# Altium integrated library ST Microcontroller 16-Bit.IntLib: 21 symbols (part 2 of 2)
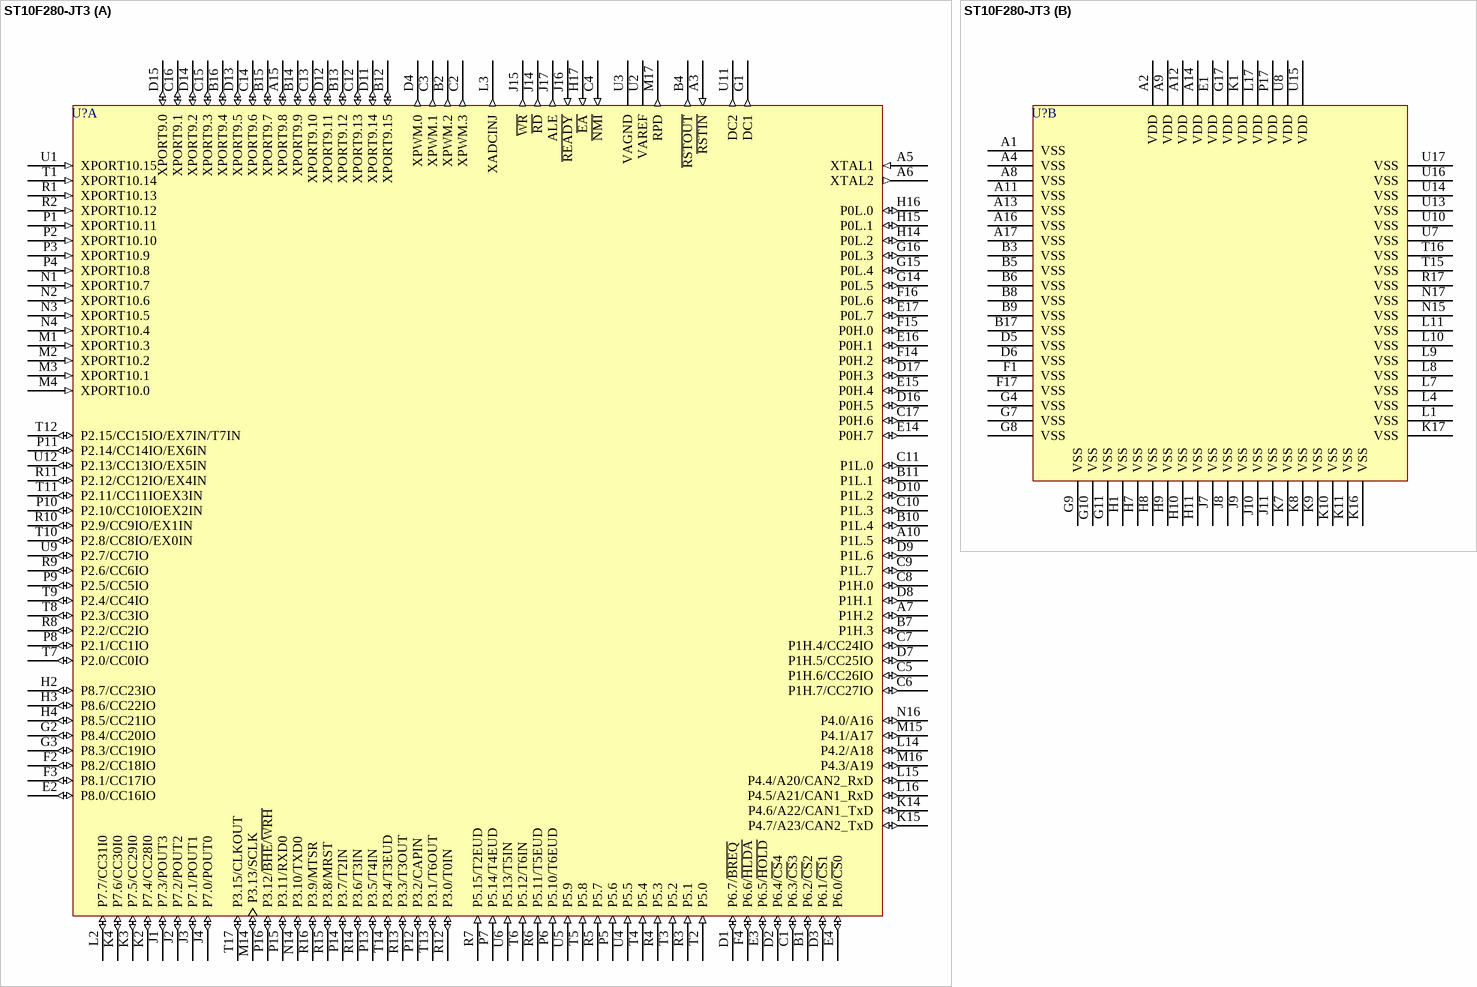
[diagram p18: symbol ST10F280-JT3]

## ST10F280-JT3
designator U?
16-Bit MCU with MAC Unit, 512k FLASH Memory and 18k RAM, 208-Pin BGA; Published: 26-May-2004; LatestRevisionDate: 6-Jun-2005; LatestRevisionNote: Stylized 3D Model Added.; DatasheetDocument: Mar-2003; PackageDocument: Mar-2003; PackageReference: PBGA208; Publisher: Altium Limited; ComponentLink1Description: Manufacturer Link; ComponentLink1URL: http://www.st.com/; ComponentLink2Description: Datasheet; ComponentLink2URL: http://www.st.com/stonline/products/literature/ds/8673/st10f280.pdf
footprint PBGA208 (BGA; 233 Balls; Body 23 x 23 mm; Pitch 1.27 mm)
3D model ST10F280-PBGA208 (BGA; 233 Balls; Body 23 x 23 mm; Pitch 1.27 mm)
part A pins: A3 ~{RSTIN} (in), A5 XTAL1 (in), A6 XTAL2 (out), A7 P1H.2 (io), A10 P1L.5 (io), A15 XPORT9.8 (io), B1 P6.2/~{CS}2 (io), B2 XPWM.2 (out), B4 ~{RSTOUT} (out), B7 P1H.3 (io), B10 P1L.4 (io), B11 P1L.1 (io), B12 XPORT9.15 (io), B13 XPORT9.12 (io), B14 XPORT9.9 (io), B15 XPORT9.7 (io), B16 XPORT9.4 (io), C1 P6.3/~{CS}3 (io), C2 XPWM.3 (out), C3 XPWM.1 (out), C4 ~{NMI} (in), C5 P1H.6/CC26IO (io), C6 P1H.7/CC27IO (io), C7 P1H.4/CC24IO (io), C8 P1H.0 (io), C9 P1L.7 (io), C10 P1L.3 (io), C11 P1L.0 (io), C12 XPORT9.13 (io), C13 XPORT9.10 (io), C14 XPORT9.6 (io), C15 XPORT9.3 (io), C16 XPORT9.1 (io), C17 P0H.6 (io), D1 P6.7/~{BREQ} (io), D2 P6.4/~{CS}4 (io), D3 P6.1/~{CS}1 (io), D4 XPWM.0 (out), D7 P1H.5/CC25IO (io), D8 P1H.1 (io), D9 P1L.6 (io), D10 P1L.2 (io), D11 XPORT9.14 (io), D12 XPORT9.11 (io), D13 XPORT9.5 (io), D14 XPORT9.2 (io), D15 XPORT9.0 (io), D16 P0H.5 (io), D17 P0H.3 (io), E2 P8.0/CC16IO (io), E3 P6.5/~{HOLD} (io), E4 P6.0/~{CS}0 (io), E14 P0H.7 (io), E15 P0H.4 (io), E16 P0H.1 (io), E17 P0L.7 (io), F2 P8.2/CC18IO (io), F3 P8.1/CC17IO (io), F4 P6.6/~{HLDA} (io), F14 P0H.2 (io), F15 P0H.0 (io), F16 P0L.6 (io), G1 DC1 (out), G2 P8.4/CC20IO (io), G3 P8.3/CC19IO (io), G14 P0L.5 (io), G15 P0L.4 (io), G16 P0L.3 (io), H2 P8.7/CC23IO (io), H3 P8.6/CC22IO (io), H4 P8.5/CC21IO (io), H14 P0L.2 (io), H15 P0L.1 (io), H16 P0L.0 (io), H17 ~{EA} (in), J1 P7.3/POUT3 (io), J2 P7.2/POUT2 (io), J3 P7.1/POUT1 (io), J4 P7.0/POUT0 (io), J14 ~{RD} (out), J15 ~{WR} (out), J16 ~{READY} (in), J17 ALE (out), K2 P7.4/CC28I0 (io), K3 P7.5/CC29I0 (io), K4 P7.6/CC30I0 (io), K14 P4.6/A22/CAN1_TxD (io), K15 P4.7/A23/CAN2_TxD (io), L2 P7.7/CC31I0 (io), L3 XADCINJ (out), L14 P4.2/A18 (io), L15 P4.4/A20/CAN2_RxD (io), L16 P4.5/A21/CAN1_RxD (io), M1 XPORT10.3 (in), M2 XPORT10.2 (in), M3 XPORT10.1 (in), M4 XPORT10.0 (in), M14 P3.13/SCLK (io), M15 P4.1/A17 (io), M16 P4.3/A19 (io), M17 RPD (out), N1 XPORT10.7 (in), N2 XPORT10.6 (in), N3 XPORT10.5 (in), N4 XPORT10.4 (in), N14 P3.10/TXD0 (io), N16 P4.0/A16 (io), P1 XPORT10.11 (in), P2 XPORT10.10 (in), P3 XPORT10.9 (in), P4 XPORT10.8 (in), P5 P5.6 (in), P6 P5.10/T6EUD (in), P7 P5.14/T4EUD (in), P8 P2.1/CC1IO (io), P9 P2.5/CC5IO (io), P10 P2.10/CC10IOEX2IN (io), P11 P2.14/CC14IO/EX6IN (io), P12 P3.2/CAPIN (io), P13 P3.5/T4IN (io), P14 P3.7/T2IN (io), P15 P3.11/RXD0 (io), P16 P3.12/~{BHE}/~{WRH} (io), R1 XPORT10.13 (in), R2 XPORT10.12 (in), R3 P5.1 (in), R4 P5.3 (in), R5 P5.7 (in), R6 P5.11/T5EUD (in), R7 P5.15/T2EUD (in), R8 P2.2/CC2IO (io), R9 P2.6/CC6IO (io), R10 P2.9/CC9IO/EX1IN (io), R11 P2.12/CC12IO/EX4IN (io), R12 P3.0/T0IN (io), R13 P3.3/T3OUT (io), R14 P3.6/T3IN (io), R15 P3.8/MRST (io), R16 P3.9/MTSR (io), T1 XPORT10.14 (in), T2 P5.0 (in), T3 P5.2 (in), T4 P5.4 (in), T5 P5.8 (in), T6 P5.12/T6IN (in), T7 P2.0/CC0IO (io), T8 P2.3/CC3IO (io), T9 P2.4/CC4IO (io), T10 P2.8/CC8IO/EX0IN (io), T11 P2.11/CC11IOEX3IN (io), T12 P2.15/CC15IO/EX7IN/T7IN (io), T13 P3.1/T6OUT (io), T14 P3.4/T3EUD (io), T17 P3.15/CLKOUT (io), U1 XPORT10.15 (in), U2 VAREF (power), U3 VAGND (power), U4 P5.5 (in), U5 P5.9 (in), U6 P5.13/T5IN (in), U9 P2.7/CC7IO (io), U11 DC2 (out), U12 P2.13/CC13IO/EX5IN (io)
part B pins: A1 VSS (power), A2 VDD (power), A4 VSS (power), A8 VSS (power), A9 VDD (power), A11 VSS (power), A12 VDD (power), A13 VSS (power), A14 VDD (power), A16 VSS (power), A17 VSS (power), B3 VSS (power), B5 VSS (power), B6 VSS (power), B8 VSS (power), B9 VSS (power), B17 VSS (power), D5 VSS (power), D6 VSS (power), E1 VDD (power), F1 VSS (power), F17 VSS (power), G4 VSS (power), G7 VSS (power), G8 VSS (power), G9 VSS (power), G10 VSS (power), G11 VSS (power), G17 VDD (power), H1 VSS (power), H7 VSS (power), H8 VSS (power), H9 VSS (power), H10 VSS (power), H11 VSS (power), J7 VSS (power), J8 VSS (power), J9 VSS (power), J10 VSS (power), J11 VSS (power), K1 VDD (power), K7 VSS (power), K8 VSS (power), K9 VSS (power), K10 VSS (power), K11 VSS (power), K16 VSS (power), K17 VSS (power), L1 VSS (power), L4 VSS (power), L7 VSS (power), L8 VSS (power), L9 VSS (power), L10 VSS (power), L11 VSS (power), L17 VDD (power), N15 VSS (power), N17 VSS (power), P17 VDD (power), R17 VSS (power), T15 VSS (power), T16 VSS (power), U7 VSS (power), U8 VDD (power), U10 VSS (power), U13 VSS (power), U14 VSS (power), U15 VDD (power), U16 VSS (power), U17 VSS (power)

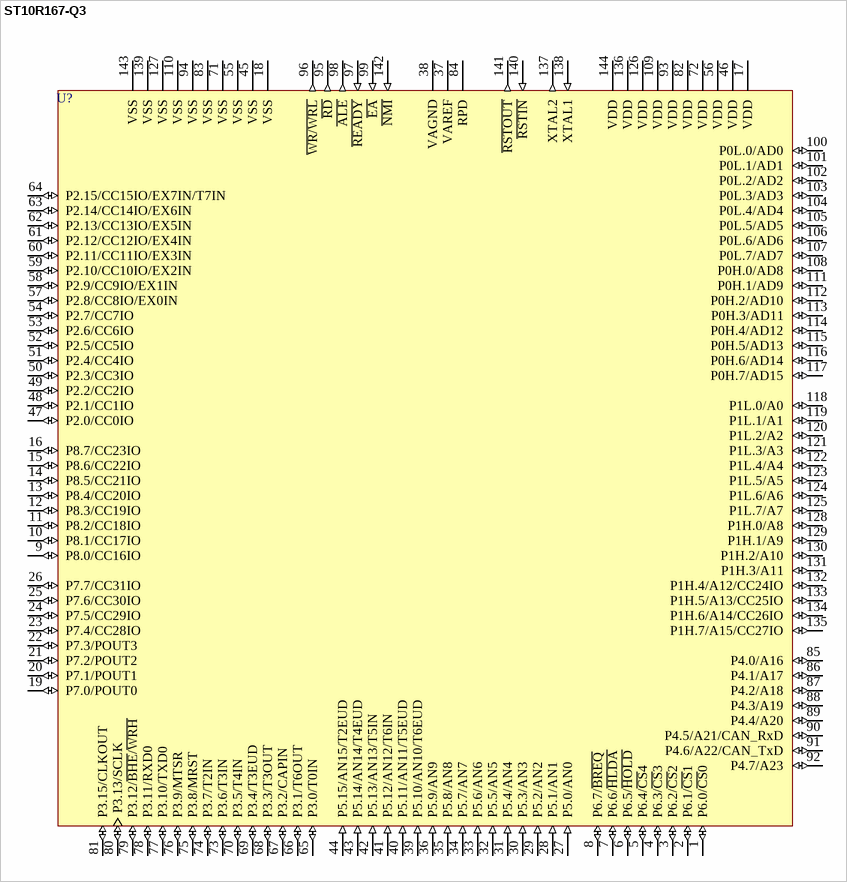
[diagram p15: symbol ST10R167-Q3]

## ST10R167-Q3
designator U?
16-Bit ROMless MCU, 144-Pin PQFP; Published: 26-May-2004; LatestRevisionDate: 6-Jun-2005; LatestRevisionNote: Stylized 3D Model Added.; DatasheetDocument: Aug-1999; PackageDocument: Jun-2002; PackageReference: PQFP144; Publisher: Altium Limited; Code_IPC: QFP28X28-144; ComponentLink1Description: Manufacturer Link; ComponentLink1URL: http://www.st.com/; ComponentLink2Description: Datasheet; ComponentLink2URL: http://www.st.com/stonline/products/literature/ds/6864/st10r167.pdf
footprint PQFP144 (QFP; 144 Leads; Body 28 x 28 mm; Pitch 0.65 mm)
3D model ST10R167-PQFP144 (QFP; 144 Leads; Body 28 x 28 mm; Pitch 0.65 mm)
pins: 1 P6.0/~{CS}0 (io), 2 P6.1/~{CS}1 (io), 3 P6.2/~{CS}2 (io), 4 P6.3/~{CS}3 (io), 5 P6.4/~{CS}4 (io), 6 P6.5/~{HOLD} (io), 7 P6.6/~{HLDA} (io), 8 P6.7/~{BREQ} (io), 9 P8.0/CC16IO (io), 10 P8.1/CC17IO (io), 11 P8.2/CC18IO (io), 12 P8.3/CC19IO (io), 13 P8.4/CC20IO (io), 14 P8.5/CC21IO (io), 15 P8.6/CC22IO (io), 16 P8.7/CC23IO (io), 17 VDD (power), 18 VSS (power), 19 P7.0/POUT0 (io), 20 P7.1/POUT1 (io), 21 P7.2/POUT2 (io), 22 P7.3/POUT3 (io), 23 P7.4/CC28IO (io), 24 P7.5/CC29IO (io), 25 P7.6/CC30IO (io), 26 P7.7/CC31IO (io), 27 P5.0/AN0 (in), 28 P5.1/AN1 (in), 29 P5.2/AN2 (in), 30 P5.3/AN3 (in), 31 P5.4/AN4 (in), 32 P5.5/AN5 (in), 33 P5.6/AN6 (in), 34 P5.7/AN7 (in), 35 P5.8/AN8 (in), 36 P5.9/AN9 (in), 37 VAREF (power), 38 VAGND (power), 39 P5.10/AN10/T6EUD (in), 40 P5.11/AN11/T5EUD (in), 41 P5.12/AN12/T6IN (in), 42 P5.13/AN13/T5IN (in), 43 P5.14/AN14/T4EUD (in), 44 P5.15/AN15/T2EUD (in), 45 VSS (power), 46 VDD (power), 47 P2.0/CC0IO (io), 48 P2.1/CC1IO (io), 49 P2.2/CC2IO (io), 50 P2.3/CC3IO (io), 51 P2.4/CC4IO (io), 52 P2.5/CC5IO (io), 53 P2.6/CC6IO (io), 54 P2.7/CC7IO (io), 55 VSS (power), 56 VDD (power), 57 P2.8/CC8IO/EX0IN (io), 58 P2.9/CC9IO/EX1IN (io), 59 P2.10/CC10IO/EX2IN (io), 60 P2.11/CC11IO/EX3IN (io), 61 P2.12/CC12IO/EX4IN (io), 62 P2.13/CC13IO/EX5IN (io), 63 P2.14/CC14IO/EX6IN (io), 64 P2.15/CC15IO/EX7IN/T7IN (io), 65 P3.0/T0IN (io), 66 P3.1/T6OUT (io), 67 P3.2/CAPIN (io), 68 P3.3/T3OUT (io), 69 P3.4/T3EUD (io), 70 P3.5/T4IN (io), 71 VSS (power), 72 VDD (power), 73 P3.6/T3IN (io), 74 P3.7/T2IN (io), 75 P3.8/MRST (io), 76 P3.9/MTSR (io), 77 P3.10/TXD0 (io), 78 P3.11/RXD0 (io), 79 P3.12/~{BHE}/~{WRH} (io), 80 P3.13/SCLK (io), 81 P3.15/CLKOUT (io), 82 VDD (power), 83 VSS (power), 84 RPD (power), 85 P4.0/A16 (io), 86 P4.1/A17 (io), 87 P4.2/A18 (io), 88 P4.3/A19 (io), 89 P4.4/A20 (io), 90 P4.5/A21/CAN_RxD (io), 91 P4.6/A22/CAN_TxD (io), 92 P4.7/A23 (io), 93 VDD (power), 94 VSS (power), 95 ~{RD} (out), 96 ~{WR/WRL} (out), 97 ~{READY} (in), 98 ~{ALE} (out), 99 ~{EA} (in), 100 P0L.0/AD0 (io), 101 P0L.1/AD1 (io), 102 P0L.2/AD2 (io), 103 P0L.3/AD3 (io), 104 P0L.4/AD4 (io), 105 P0L.5/AD5 (io), 106 P0L.6/AD6 (io), 107 P0L.7/AD7 (io), 108 P0H.0/AD8 (io), 109 VDD (power), 110 VSS (power), 111 P0H.1/AD9 (io), 112 P0H.2/AD10 (io), 113 P0H.3/AD11 (io), 114 P0H.4/AD12 (io), 115 P0H.5/AD13 (io), 116 P0H.6/AD14 (io), 117 P0H.7/AD15 (io), 118 P1L.0/A0 (io), 119 P1L.1/A1 (io), 120 P1L.2/A2 (io), 121 P1L.3/A3 (io), 122 P1L.4/A4 (io), 123 P1L.5/A5 (io), 124 P1L.6/A6 (io), 125 P1L.7/A7 (io), 126 VDD (power), 127 VSS (power), 128 P1H.0/A8 (io), 129 P1H.1/A9 (io), 130 P1H.2/A10 (io), 131 P1H.3/A11 (io), 132 P1H.4/A12/CC24IO (io), 133 P1H.5/A13/CC25IO (io), 134 P1H.6/A14/CC26IO (io), 135 P1H.7/A15/CC27IO (io), 136 VDD (power), 137 XTAL2 (out), 138 XTAL1 (in), 139 VSS (power), 140 ~{RSTIN} (in), 141 ~{RSTOUT} (out), 142 ~{NMI} (in), 143 VSS (power), 144 VDD (power)

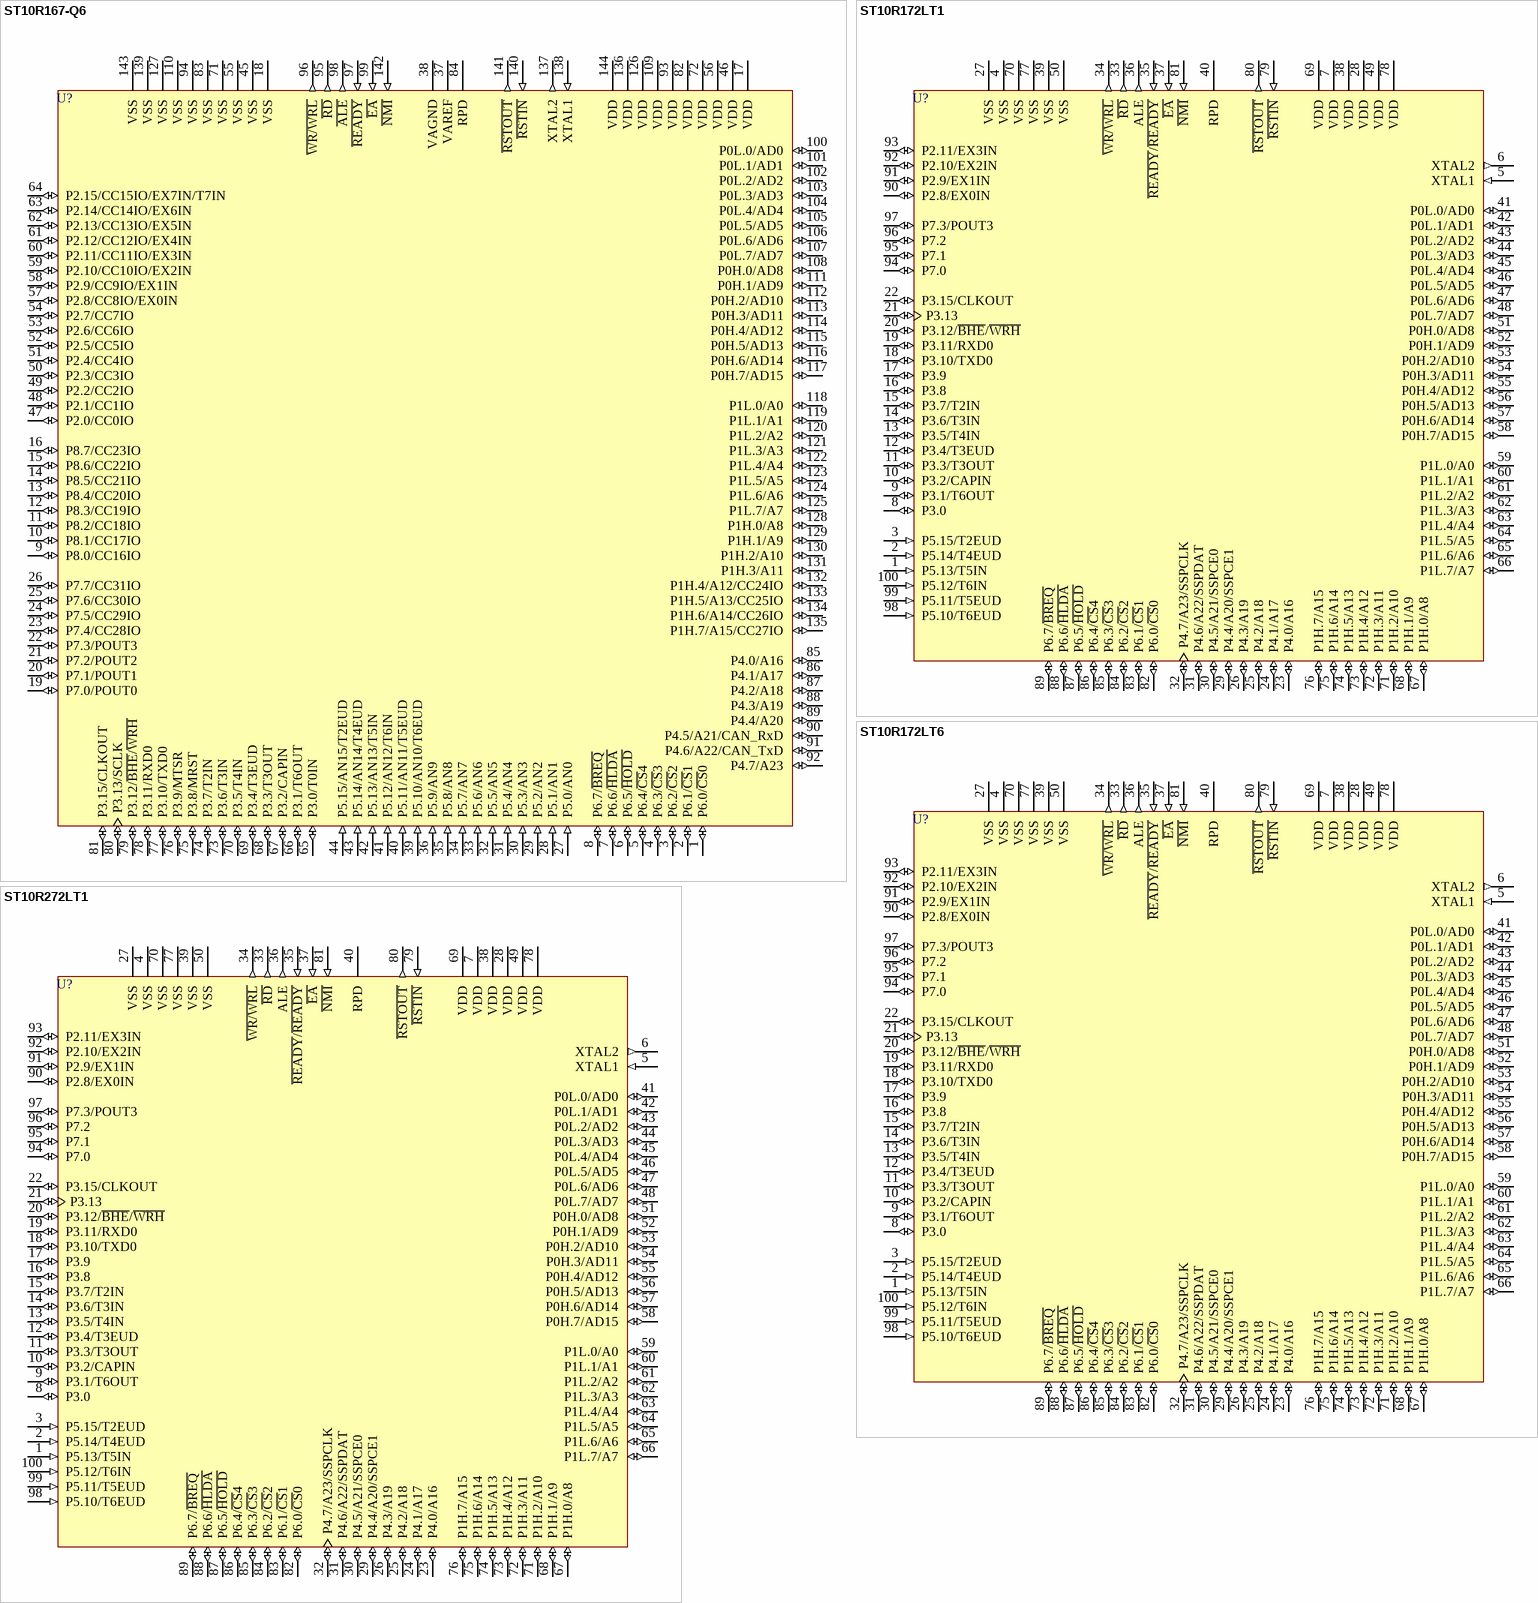
[diagram p16: symbols ST10R167-Q6 to ST10R272LT1]

## ST10R167-Q6
designator U?
16-Bit ROMless MCU, 144-Pin PQFP; Published: 26-May-2004; LatestRevisionDate: 6-Jun-2005; LatestRevisionNote: Stylized 3D Model Added.; DatasheetDocument: Aug-1999; PackageDocument: Jun-2002; PackageReference: PQFP144; Publisher: Altium Limited; Code_IPC: QFP28X28-144; ComponentLink1Description: Manufacturer Link; ComponentLink1URL: http://www.st.com/; ComponentLink2Description: Datasheet; ComponentLink2URL: http://www.st.com/stonline/products/literature/ds/6864/st10r167.pdf
footprint PQFP144 (QFP; 144 Leads; Body 28 x 28 mm; Pitch 0.65 mm)
3D model ST10R167-PQFP144 (QFP; 144 Leads; Body 28 x 28 mm; Pitch 0.65 mm)
pins: 1 P6.0/~{CS}0 (io), 2 P6.1/~{CS}1 (io), 3 P6.2/~{CS}2 (io), 4 P6.3/~{CS}3 (io), 5 P6.4/~{CS}4 (io), 6 P6.5/~{HOLD} (io), 7 P6.6/~{HLDA} (io), 8 P6.7/~{BREQ} (io), 9 P8.0/CC16IO (io), 10 P8.1/CC17IO (io), 11 P8.2/CC18IO (io), 12 P8.3/CC19IO (io), 13 P8.4/CC20IO (io), 14 P8.5/CC21IO (io), 15 P8.6/CC22IO (io), 16 P8.7/CC23IO (io), 17 VDD (power), 18 VSS (power), 19 P7.0/POUT0 (io), 20 P7.1/POUT1 (io), 21 P7.2/POUT2 (io), 22 P7.3/POUT3 (io), 23 P7.4/CC28IO (io), 24 P7.5/CC29IO (io), 25 P7.6/CC30IO (io), 26 P7.7/CC31IO (io), 27 P5.0/AN0 (in), 28 P5.1/AN1 (in), 29 P5.2/AN2 (in), 30 P5.3/AN3 (in), 31 P5.4/AN4 (in), 32 P5.5/AN5 (in), 33 P5.6/AN6 (in), 34 P5.7/AN7 (in), 35 P5.8/AN8 (in), 36 P5.9/AN9 (in), 37 VAREF (power), 38 VAGND (power), 39 P5.10/AN10/T6EUD (in), 40 P5.11/AN11/T5EUD (in), 41 P5.12/AN12/T6IN (in), 42 P5.13/AN13/T5IN (in), 43 P5.14/AN14/T4EUD (in), 44 P5.15/AN15/T2EUD (in), 45 VSS (power), 46 VDD (power), 47 P2.0/CC0IO (io), 48 P2.1/CC1IO (io), 49 P2.2/CC2IO (io), 50 P2.3/CC3IO (io), 51 P2.4/CC4IO (io), 52 P2.5/CC5IO (io), 53 P2.6/CC6IO (io), 54 P2.7/CC7IO (io), 55 VSS (power), 56 VDD (power), 57 P2.8/CC8IO/EX0IN (io), 58 P2.9/CC9IO/EX1IN (io), 59 P2.10/CC10IO/EX2IN (io), 60 P2.11/CC11IO/EX3IN (io), 61 P2.12/CC12IO/EX4IN (io), 62 P2.13/CC13IO/EX5IN (io), 63 P2.14/CC14IO/EX6IN (io), 64 P2.15/CC15IO/EX7IN/T7IN (io), 65 P3.0/T0IN (io), 66 P3.1/T6OUT (io), 67 P3.2/CAPIN (io), 68 P3.3/T3OUT (io), 69 P3.4/T3EUD (io), 70 P3.5/T4IN (io), 71 VSS (power), 72 VDD (power), 73 P3.6/T3IN (io), 74 P3.7/T2IN (io), 75 P3.8/MRST (io), 76 P3.9/MTSR (io), 77 P3.10/TXD0 (io), 78 P3.11/RXD0 (io), 79 P3.12/~{BHE}/~{WRH} (io), 80 P3.13/SCLK (io), 81 P3.15/CLKOUT (io), 82 VDD (power), 83 VSS (power), 84 RPD (power), 85 P4.0/A16 (io), 86 P4.1/A17 (io), 87 P4.2/A18 (io), 88 P4.3/A19 (io), 89 P4.4/A20 (io), 90 P4.5/A21/CAN_RxD (io), 91 P4.6/A22/CAN_TxD (io), 92 P4.7/A23 (io), 93 VDD (power), 94 VSS (power), 95 ~{RD} (out), 96 ~{WR/WRL} (out), 97 ~{READY} (in), 98 ~{ALE} (out), 99 ~{EA} (in), 100 P0L.0/AD0 (io), 101 P0L.1/AD1 (io), 102 P0L.2/AD2 (io), 103 P0L.3/AD3 (io), 104 P0L.4/AD4 (io), 105 P0L.5/AD5 (io), 106 P0L.6/AD6 (io), 107 P0L.7/AD7 (io), 108 P0H.0/AD8 (io), 109 VDD (power), 110 VSS (power), 111 P0H.1/AD9 (io), 112 P0H.2/AD10 (io), 113 P0H.3/AD11 (io), 114 P0H.4/AD12 (io), 115 P0H.5/AD13 (io), 116 P0H.6/AD14 (io), 117 P0H.7/AD15 (io), 118 P1L.0/A0 (io), 119 P1L.1/A1 (io), 120 P1L.2/A2 (io), 121 P1L.3/A3 (io), 122 P1L.4/A4 (io), 123 P1L.5/A5 (io), 124 P1L.6/A6 (io), 125 P1L.7/A7 (io), 126 VDD (power), 127 VSS (power), 128 P1H.0/A8 (io), 129 P1H.1/A9 (io), 130 P1H.2/A10 (io), 131 P1H.3/A11 (io), 132 P1H.4/A12/CC24IO (io), 133 P1H.5/A13/CC25IO (io), 134 P1H.6/A14/CC26IO (io), 135 P1H.7/A15/CC27IO (io), 136 VDD (power), 137 XTAL2 (out), 138 XTAL1 (in), 139 VSS (power), 140 ~{RSTIN} (in), 141 ~{RSTOUT} (out), 142 ~{NMI} (in), 143 VSS (power), 144 VDD (power)

## ST10R172LT1
designator U?
16-Bit Low Voltage ROMless MCU, 100-Pin TQFP; Published: 26-May-2004; LatestRevisionDate: 6-Jun-2005; LatestRevisionNote: Stylized 3D Model Added.; DatasheetDocument: rev1.2, Mar-2001; PackageDocument: Dec-2002; PackageReference: TQFP100; Publisher: Altium Limited; Code_IPC: SQFP14X14-100; ComponentLink1Description: Manufacturer Link; ComponentLink1URL: http://www.st.com/; ComponentLink2Description: Datasheet; ComponentLink2URL: http://www.st.com/stonline/products/literature/ds/6994/st10r172.pdf
footprint TQFP100 (QFP, Thin; 100 Leads; Body 14 x 14 mm; Pitch 0.5 mm)
3D model ST10R172L-TQFP100 (QFP, Thin; 100 Leads; Body 14 x 14 mm; Pitch 0.5 mm)
pins: 1 P5.13/T5IN (in), 2 P5.14/T4EUD (in), 3 P5.15/T2EUD (in), 4 VSS (power), 5 XTAL1 (in), 6 XTAL2 (out), 7 VDD (power), 8 P3.0 (io), 9 P3.1/T6OUT (io), 10 P3.2/CAPIN (io), 11 P3.3/T3OUT (io), 12 P3.4/T3EUD (io), 13 P3.5/T4IN (io), 14 P3.6/T3IN (io), 15 P3.7/T2IN (io), 16 P3.8 (io), 17 P3.9 (io), 18 P3.10/TXD0 (io), 19 P3.11/RXD0 (io), 20 P3.12/~{BHE}/~{WRH} (io), 21 P3.13 (io), 22 P3.15/CLKOUT (io), 23 P4.0/A16 (io), 24 P4.1/A17 (io), 25 P4.2/A18 (io), 26 P4.3/A19 (io), 27 VSS (power), 28 VDD (power), 29 P4.4/A20/SSPCE1 (io), 30 P4.5/A21/SSPCE0 (io), 31 P4.6/A22/SSPDAT (io), 32 P4.7/A23/SSPCLK (io), 33 ~{RD} (out), 34 ~{WR/WRL} (out), 35 ~{READY}/~{READY} (in), 36 ALE (out), 37 ~{EA} (in), 38 VDD (power), 39 VSS (power), 40 RPD (power), 41 P0L.0/AD0 (io), 42 P0L.1/AD1 (io), 43 P0L.2/AD2 (io), 44 P0L.3/AD3 (io), 45 P0L.4/AD4 (io), 46 P0L.5/AD5 (io), 47 P0L.6/AD6 (io), 48 P0L.7/AD7 (io), 49 VDD (power), 50 VSS (power), 51 P0H.0/AD8 (io), 52 P0H.1/AD9 (io), 53 P0H.2/AD10 (io), 54 P0H.3/AD11 (io), 55 P0H.4/AD12 (io), 56 P0H.5/AD13 (io), 57 P0H.6/AD14 (io), 58 P0H.7/AD15 (io), 59 P1L.0/A0 (io), 60 P1L.1/A1 (io), 61 P1L.2/A2 (io), 62 P1L.3/A3 (io), 63 P1L.4/A4 (io), 64 P1L.5/A5 (io), 65 P1L.6/A6 (io), 66 P1L.7/A7 (io), 67 P1H.0/A8 (io), 68 P1H.1/A9 (io), 69 VDD (power), 70 VSS (power), 71 P1H.2/A10 (io), 72 P1H.3/A11 (io), 73 P1H.4/A12 (io), 74 P1H.5/A13 (io), 75 P1H.6/A14 (io), 76 P1H.7/A15 (io), 77 VSS (power), 78 VDD (power), 79 ~{RSTIN} (in), 80 ~{RSTOUT} (out), 81 ~{NMI} (in), 82 P6.0/~{CS}0 (io), 83 P6.1/~{CS}1 (io), 84 P6.2/~{CS}2 (io), 85 P6.3/~{CS}3 (io), 86 P6.4/~{CS}4 (io), 87 P6.5/~{HOLD} (io), 88 P6.6/~{HLDA} (io), 89 P6.7/~{BREQ} (io), 90 P2.8/EX0IN (io), 91 P2.9/EX1IN (io), 92 P2.10/EX2IN (io), 93 P2.11/EX3IN (io), 94 P7.0 (io), 95 P7.1 (io), 96 P7.2 (io), 97 P7.3/POUT3 (io), 98 P5.10/T6EUD (in), 99 P5.11/T5EUD (in), 100 P5.12/T6IN (in)

## ST10R172LT6
designator U?
16-Bit Low Voltage ROMless MCU, 100-Pin TQFP; Published: 26-May-2004; LatestRevisionDate: 6-Jun-2005; LatestRevisionNote: Stylized 3D Model Added.; DatasheetDocument: rev1.2, Mar-2001; PackageDocument: Dec-2002; PackageReference: TQFP100; Publisher: Altium Limited; Code_IPC: SQFP14X14-100; ComponentLink1Description: Manufacturer Link; ComponentLink1URL: http://www.st.com/; ComponentLink2Description: Datasheet; ComponentLink2URL: http://www.st.com/stonline/products/literature/ds/6994/st10r172.pdf
footprint TQFP100 (QFP, Thin; 100 Leads; Body 14 x 14 mm; Pitch 0.5 mm)
3D model ST10R172L-TQFP100 (QFP, Thin; 100 Leads; Body 14 x 14 mm; Pitch 0.5 mm)
pins: 1 P5.13/T5IN (in), 2 P5.14/T4EUD (in), 3 P5.15/T2EUD (in), 4 VSS (power), 5 XTAL1 (in), 6 XTAL2 (out), 7 VDD (power), 8 P3.0 (io), 9 P3.1/T6OUT (io), 10 P3.2/CAPIN (io), 11 P3.3/T3OUT (io), 12 P3.4/T3EUD (io), 13 P3.5/T4IN (io), 14 P3.6/T3IN (io), 15 P3.7/T2IN (io), 16 P3.8 (io), 17 P3.9 (io), 18 P3.10/TXD0 (io), 19 P3.11/RXD0 (io), 20 P3.12/~{BHE}/~{WRH} (io), 21 P3.13 (io), 22 P3.15/CLKOUT (io), 23 P4.0/A16 (io), 24 P4.1/A17 (io), 25 P4.2/A18 (io), 26 P4.3/A19 (io), 27 VSS (power), 28 VDD (power), 29 P4.4/A20/SSPCE1 (io), 30 P4.5/A21/SSPCE0 (io), 31 P4.6/A22/SSPDAT (io), 32 P4.7/A23/SSPCLK (io), 33 ~{RD} (out), 34 ~{WR/WRL} (out), 35 ~{READY}/~{READY} (in), 36 ALE (out), 37 ~{EA} (in), 38 VDD (power), 39 VSS (power), 40 RPD (power), 41 P0L.0/AD0 (io), 42 P0L.1/AD1 (io), 43 P0L.2/AD2 (io), 44 P0L.3/AD3 (io), 45 P0L.4/AD4 (io), 46 P0L.5/AD5 (io), 47 P0L.6/AD6 (io), 48 P0L.7/AD7 (io), 49 VDD (power), 50 VSS (power), 51 P0H.0/AD8 (io), 52 P0H.1/AD9 (io), 53 P0H.2/AD10 (io), 54 P0H.3/AD11 (io), 55 P0H.4/AD12 (io), 56 P0H.5/AD13 (io), 57 P0H.6/AD14 (io), 58 P0H.7/AD15 (io), 59 P1L.0/A0 (io), 60 P1L.1/A1 (io), 61 P1L.2/A2 (io), 62 P1L.3/A3 (io), 63 P1L.4/A4 (io), 64 P1L.5/A5 (io), 65 P1L.6/A6 (io), 66 P1L.7/A7 (io), 67 P1H.0/A8 (io), 68 P1H.1/A9 (io), 69 VDD (power), 70 VSS (power), 71 P1H.2/A10 (io), 72 P1H.3/A11 (io), 73 P1H.4/A12 (io), 74 P1H.5/A13 (io), 75 P1H.6/A14 (io), 76 P1H.7/A15 (io), 77 VSS (power), 78 VDD (power), 79 ~{RSTIN} (in), 80 ~{RSTOUT} (out), 81 ~{NMI} (in), 82 P6.0/~{CS}0 (io), 83 P6.1/~{CS}1 (io), 84 P6.2/~{CS}2 (io), 85 P6.3/~{CS}3 (io), 86 P6.4/~{CS}4 (io), 87 P6.5/~{HOLD} (io), 88 P6.6/~{HLDA} (io), 89 P6.7/~{BREQ} (io), 90 P2.8/EX0IN (io), 91 P2.9/EX1IN (io), 92 P2.10/EX2IN (io), 93 P2.11/EX3IN (io), 94 P7.0 (io), 95 P7.1 (io), 96 P7.2 (io), 97 P7.3/POUT3 (io), 98 P5.10/T6EUD (in), 99 P5.11/T5EUD (in), 100 P5.12/T6IN (in)

## ST10R272LT1
designator U?
16-Bit Low Voltage ROMless MCU with MAC Unit, 100-Pin TQFP; Published: 26-May-2004; LatestRevisionDate: 6-Jun-2005; LatestRevisionNote: Stylized 3D Model Added.; DatasheetDocument: rev1.3, Mar-2001; PackageDocument: Dec-2002; PackageReference: TQFP100; Publisher: Altium Limited; Code_IPC: SQFP14X14-100; ComponentLink1Description: Manufacturer Link; ComponentLink1URL: http://www.st.com/; ComponentLink2Description: Datasheet; ComponentLink2URL: http://www.st.com/stonline/products/literature/ds/6995/st10r272l.pdf
footprint TQFP100 (QFP, Thin; 100 Leads; Body 14 x 14 mm; Pitch 0.5 mm)
3D model ST10R272L-TQFP100 (QFP, Thin; 100 Leads; Body 14 x 14 mm; Pitch 0.5 mm)
pins: 1 P5.13/T5IN (in), 2 P5.14/T4EUD (in), 3 P5.15/T2EUD (in), 4 VSS (power), 5 XTAL1 (in), 6 XTAL2 (out), 7 VDD (power), 8 P3.0 (io), 9 P3.1/T6OUT (io), 10 P3.2/CAPIN (io), 11 P3.3/T3OUT (io), 12 P3.4/T3EUD (io), 13 P3.5/T4IN (io), 14 P3.6/T3IN (io), 15 P3.7/T2IN (io), 16 P3.8 (io), 17 P3.9 (io), 18 P3.10/TXD0 (io), 19 P3.11/RXD0 (io), 20 P3.12/~{BHE}/~{WRH} (io), 21 P3.13 (io), 22 P3.15/CLKOUT (io), 23 P4.0/A16 (io), 24 P4.1/A17 (io), 25 P4.2/A18 (io), 26 P4.3/A19 (io), 27 VSS (power), 28 VDD (power), 29 P4.4/A20/SSPCE1 (io), 30 P4.5/A21/SSPCE0 (io), 31 P4.6/A22/SSPDAT (io), 32 P4.7/A23/SSPCLK (io), 33 ~{RD} (out), 34 ~{WR/WRL} (out), 35 ~{READY}/~{READY} (in), 36 ALE (out), 37 ~{EA} (in), 38 VDD (power), 39 VSS (power), 40 RPD (power), 41 P0L.0/AD0 (io), 42 P0L.1/AD1 (io), 43 P0L.2/AD2 (io), 44 P0L.3/AD3 (io), 45 P0L.4/AD4 (io), 46 P0L.5/AD5 (io), 47 P0L.6/AD6 (io), 48 P0L.7/AD7 (io), 49 VDD (power), 50 VSS (power), 51 P0H.0/AD8 (io), 52 P0H.1/AD9 (io), 53 P0H.2/AD10 (io), 54 P0H.3/AD11 (io), 55 P0H.4/AD12 (io), 56 P0H.5/AD13 (io), 57 P0H.6/AD14 (io), 58 P0H.7/AD15 (io), 59 P1L.0/A0 (io), 60 P1L.1/A1 (io), 61 P1L.2/A2 (io), 62 P1L.3/A3 (io), 63 P1L.4/A4 (io), 64 P1L.5/A5 (io), 65 P1L.6/A6 (io), 66 P1L.7/A7 (io), 67 P1H.0/A8 (io), 68 P1H.1/A9 (io), 69 VDD (power), 70 VSS (power), 71 P1H.2/A10 (io), 72 P1H.3/A11 (io), 73 P1H.4/A12 (io), 74 P1H.5/A13 (io), 75 P1H.6/A14 (io), 76 P1H.7/A15 (io), 77 VSS (power), 78 VDD (power), 79 ~{RSTIN} (in), 80 ~{RSTOUT} (out), 81 ~{NMI} (in), 82 P6.0/~{CS}0 (io), 83 P6.1/~{CS}1 (io), 84 P6.2/~{CS}2 (io), 85 P6.3/~{CS}3 (io), 86 P6.4/~{CS}4 (io), 87 P6.5/~{HOLD} (io), 88 P6.6/~{HLDA} (io), 89 P6.7/~{BREQ} (io), 90 P2.8/EX0IN (io), 91 P2.9/EX1IN (io), 92 P2.10/EX2IN (io), 93 P2.11/EX3IN (io), 94 P7.0 (io), 95 P7.1 (io), 96 P7.2 (io), 97 P7.3/POUT3 (io), 98 P5.10/T6EUD (in), 99 P5.11/T5EUD (in), 100 P5.12/T6IN (in)

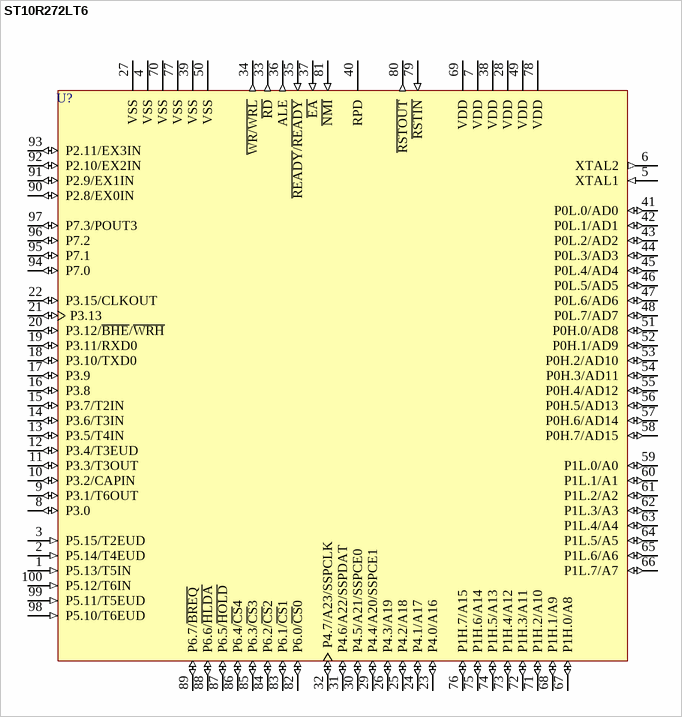
[diagram p17: symbol ST10R272LT6]

## ST10R272LT6
designator U?
16-Bit Low Voltage ROMless MCU with MAC Unit, 100-Pin TQFP; Published: 26-May-2004; LatestRevisionDate: 6-Jun-2005; LatestRevisionNote: Stylized 3D Model Added.; DatasheetDocument: rev1.3, Mar-2001; PackageDocument: Dec-2002; PackageReference: TQFP100; Publisher: Altium Limited; Code_IPC: SQFP14X14-100; ComponentLink1Description: Manufacturer Link; ComponentLink1URL: http://www.st.com/; ComponentLink2Description: Datasheet; ComponentLink2URL: http://www.st.com/stonline/products/literature/ds/6995/st10r272l.pdf
footprint TQFP100 (QFP, Thin; 100 Leads; Body 14 x 14 mm; Pitch 0.5 mm)
3D model ST10R272L-TQFP100 (QFP, Thin; 100 Leads; Body 14 x 14 mm; Pitch 0.5 mm)
pins: 1 P5.13/T5IN (in), 2 P5.14/T4EUD (in), 3 P5.15/T2EUD (in), 4 VSS (power), 5 XTAL1 (in), 6 XTAL2 (out), 7 VDD (power), 8 P3.0 (io), 9 P3.1/T6OUT (io), 10 P3.2/CAPIN (io), 11 P3.3/T3OUT (io), 12 P3.4/T3EUD (io), 13 P3.5/T4IN (io), 14 P3.6/T3IN (io), 15 P3.7/T2IN (io), 16 P3.8 (io), 17 P3.9 (io), 18 P3.10/TXD0 (io), 19 P3.11/RXD0 (io), 20 P3.12/~{BHE}/~{WRH} (io), 21 P3.13 (io), 22 P3.15/CLKOUT (io), 23 P4.0/A16 (io), 24 P4.1/A17 (io), 25 P4.2/A18 (io), 26 P4.3/A19 (io), 27 VSS (power), 28 VDD (power), 29 P4.4/A20/SSPCE1 (io), 30 P4.5/A21/SSPCE0 (io), 31 P4.6/A22/SSPDAT (io), 32 P4.7/A23/SSPCLK (io), 33 ~{RD} (out), 34 ~{WR/WRL} (out), 35 ~{READY}/~{READY} (in), 36 ALE (out), 37 ~{EA} (in), 38 VDD (power), 39 VSS (power), 40 RPD (power), 41 P0L.0/AD0 (io), 42 P0L.1/AD1 (io), 43 P0L.2/AD2 (io), 44 P0L.3/AD3 (io), 45 P0L.4/AD4 (io), 46 P0L.5/AD5 (io), 47 P0L.6/AD6 (io), 48 P0L.7/AD7 (io), 49 VDD (power), 50 VSS (power), 51 P0H.0/AD8 (io), 52 P0H.1/AD9 (io), 53 P0H.2/AD10 (io), 54 P0H.3/AD11 (io), 55 P0H.4/AD12 (io), 56 P0H.5/AD13 (io), 57 P0H.6/AD14 (io), 58 P0H.7/AD15 (io), 59 P1L.0/A0 (io), 60 P1L.1/A1 (io), 61 P1L.2/A2 (io), 62 P1L.3/A3 (io), 63 P1L.4/A4 (io), 64 P1L.5/A5 (io), 65 P1L.6/A6 (io), 66 P1L.7/A7 (io), 67 P1H.0/A8 (io), 68 P1H.1/A9 (io), 69 VDD (power), 70 VSS (power), 71 P1H.2/A10 (io), 72 P1H.3/A11 (io), 73 P1H.4/A12 (io), 74 P1H.5/A13 (io), 75 P1H.6/A14 (io), 76 P1H.7/A15 (io), 77 VSS (power), 78 VDD (power), 79 ~{RSTIN} (in), 80 ~{RSTOUT} (out), 81 ~{NMI} (in), 82 P6.0/~{CS}0 (io), 83 P6.1/~{CS}1 (io), 84 P6.2/~{CS}2 (io), 85 P6.3/~{CS}3 (io), 86 P6.4/~{CS}4 (io), 87 P6.5/~{HOLD} (io), 88 P6.6/~{HLDA} (io), 89 P6.7/~{BREQ} (io), 90 P2.8/EX0IN (io), 91 P2.9/EX1IN (io), 92 P2.10/EX2IN (io), 93 P2.11/EX3IN (io), 94 P7.0 (io), 95 P7.1 (io), 96 P7.2 (io), 97 P7.3/POUT3 (io), 98 P5.10/T6EUD (in), 99 P5.11/T5EUD (in), 100 P5.12/T6IN (in)